# Altium schematic symbol library TS2596SCS.Schlib: 1 symbol
Pins are listed as number, name and electrical type; pins without a type are passive.

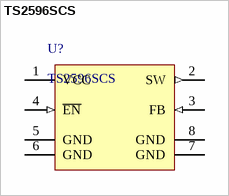
[diagram p0: symbol TS2596SCS]

## TS2596SCS
designator U?
Switching Voltage Regulators 3A STEP DOWN 3.3V ADJUSTABLE SWITCHING VOLT REG
pins: 1 VCC (power), 2 SW (out), 3 FB (in), 4 ~{EN} (in), 5 GND (power), 6 GND (power), 7 GND (power), 8 GND (power)